# EAGLE library part L_29F0528 (library MRDT-2015-PowerBoard)
Through-Hole Ferrite Bead rated for 10 Amps
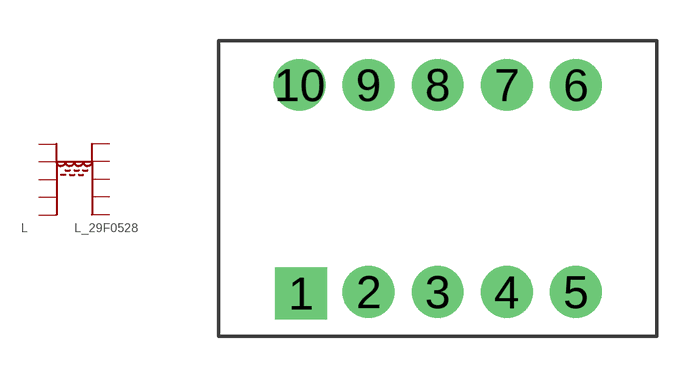
[diagram p1: symbol with the pads of L_29F0528; footprint L_29F0528]

Designator prefix L

## L_29F0528  [L_29F0528]
1  1
2  2
3  3
4  4
5  5
6  6
7  7
8  8
9  9
10  10

## Footprint L_29F0528 (pad centres in mm)
drill 1.27 pad 1.27 square: 1 -5.029,-7.671
drill 1.27 pad 1.27: 2 -2.54,-7.62; 3 0,-7.62; 4 2.54,-7.62; 5 5.08,-7.62; 6 5.08,0; 7 2.54,0; 8 0,0; 9 -2.54,0; 10 -5.08,0